# Altium footprint library GSOT04C-HE3-08.PcbLib: 3 footprints
Each footprint in its own frame and in the unit in brackets; x right, y up, seen from the top. Pads: shape width x height; smd on the part's side, far side on the other; paste and mask are expansions set on the pad; w line width, h text height; cw(c..) or ccw(c..) is an arc to the next point about the centre after c.
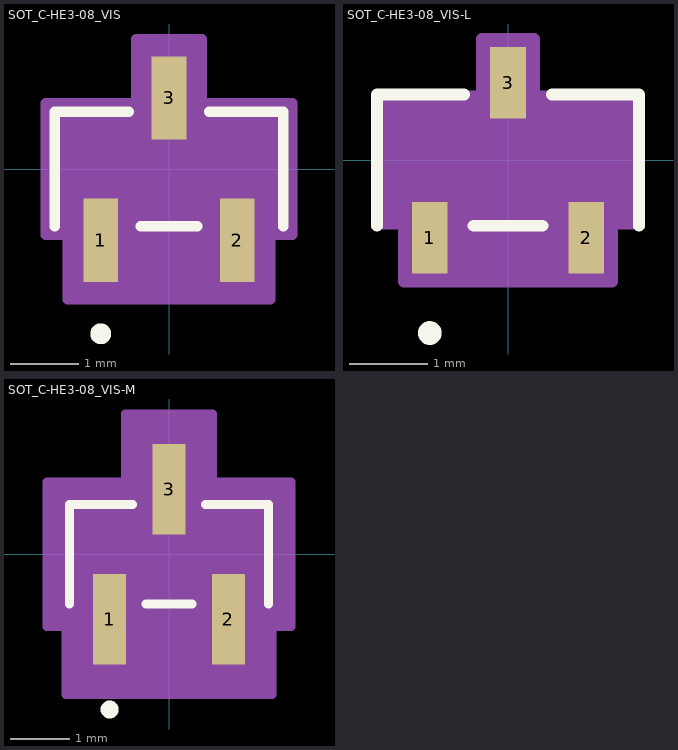
[diagram p0: the footprints below, top view; thin cyan lines are the x and y axes]

## SOT_C-HE3-08_VIS [mil]
pads (3):
  rect 20x48 smd paste+0 mask+0: 1(-39.37,-41) 2(39.37,-41) 3(0,41)
Top Overlay:
  circle w6: c-39.37,-95 r3
  lines w6: -66,-33 -66,33 -23.1,33 ; -16.27,-33 16.27,-33 ; 23.1,33 66,33 66,-33
  text ".Designator" at -137.5,-25 h50
Mechanical 13:
  circle w1: c-39.37,-18 r3
  lines w1: -61,-28 61,-28 61,28 -61,28 -61,-28 ; -48.37,-51 -48.37,-28 -30.37,-28 -30.37,-51 -48.37,-51 ; -9,28 9,28 9,51 -9,51 -9,28 ; 30.37,-51 30.37,-28 48.37,-28 48.37,-51 30.37,-51
  text ".Designator" at -137.5,-25 h50
Mechanical 15:
  region: -71,-38 -71,38 -19,38 -19,75 19,75 19,38 71,38 71,-38 58.37,-38 58.37,-75 -58.37,-75 -58.37,-38
  lines w6: -71,-38 -71,38 -19,38 -19,75 19,75 19,38 71,38 71,-38 58.37,-38 58.37,-75 -58.37,-75 -58.37,-38 -71,-38
3D body "SOT_C-HE3-08_VIS.step": height 45.12, standoff 0, extent -60.98,-50.98 60.98,50.98

## SOT_C-HE3-08_VIS-L [mil]
pads (3):
  rect 18x36 smd paste+0 mask+0: 1(-39.37,-39) 2(39.37,-39) 3(0,39)
Top Overlay:
  circle w6: c-39.37,-87 r3
  lines w6: -66,-33 -66,33 -22.1,33 ; -17.27,-33 17.27,-33 ; 22.1,33 66,33 66,-33
  text ".Designator" at -137.5,-25 h50
Mechanical 13:
  circle w1: c-39.37,-18 r3
  lines w1: -61,-28 61,-28 61,28 -61,28 -61,-28 ; -48.37,-51 -48.37,-28 -30.37,-28 -30.37,-51 -48.37,-51 ; -9,28 9,28 9,51 -9,51 -9,28 ; 30.37,-51 30.37,-28 48.37,-28 48.37,-51 30.37,-51
  text ".Designator" at -137.5,-25 h50
Mechanical 15:
  region: -65,-32 -65,32 -13,32 -13,61 13,61 13,32 65,32 65,-32 52.37,-32 52.37,-61 -52.37,-61 -52.37,-32
  lines w6: -65,-32 -65,32 -13,32 -13,61 13,61 13,32 65,32 65,-32 52.37,-32 52.37,-61 -52.37,-61 -52.37,-32 -65,-32
3D body "SOT_C-HE3-08_VIS.step": height 45.12, standoff 0, extent -60.98,-50.98 60.98,50.98

## SOT_C-HE3-08_VIS-M [mil]
pads (3):
  rect 22x60 smd paste+0 mask+0: 1(-39.37,-43) 2(39.37,-43) 3(0,43)
Top Overlay:
  circle w6: c-39.37,-103 r3
  lines w6: -66,-33 -66,33 -24.1,33 ; -15.27,-33 15.27,-33 ; 24.1,33 66,33 66,-33
  text ".Designator" at -137.5,-25 h50
Mechanical 13:
  circle w1: c-39.37,-18 r3
  lines w1: -61,-28 61,-28 61,28 -61,28 -61,-28 ; -48.37,-51 -48.37,-28 -30.37,-28 -30.37,-51 -48.37,-51 ; -9,28 9,28 9,51 -9,51 -9,28 ; 30.37,-51 30.37,-28 48.37,-28 48.37,-51 30.37,-51
  text ".Designator" at -137.5,-25 h50
Mechanical 15:
  region: -81,-48 -81,48 -29,48 -29,93 29,93 29,48 81,48 81,-48 68.37,-48 68.37,-93 -68.37,-93 -68.37,-48
  lines w6: -81,-48 -81,48 -29,48 -29,93 29,93 29,48 81,48 81,-48 68.37,-48 68.37,-93 -68.37,-93 -68.37,-48 -81,-48
3D body "SOT_C-HE3-08_VIS.step": height 45.12, standoff 0, extent -60.98,-50.98 60.98,50.98